# Altium schematic symbol library tms320vc5402.SchLib: 5 symbols
Pins are listed as number, name and electrical type; pins without a type are passive.

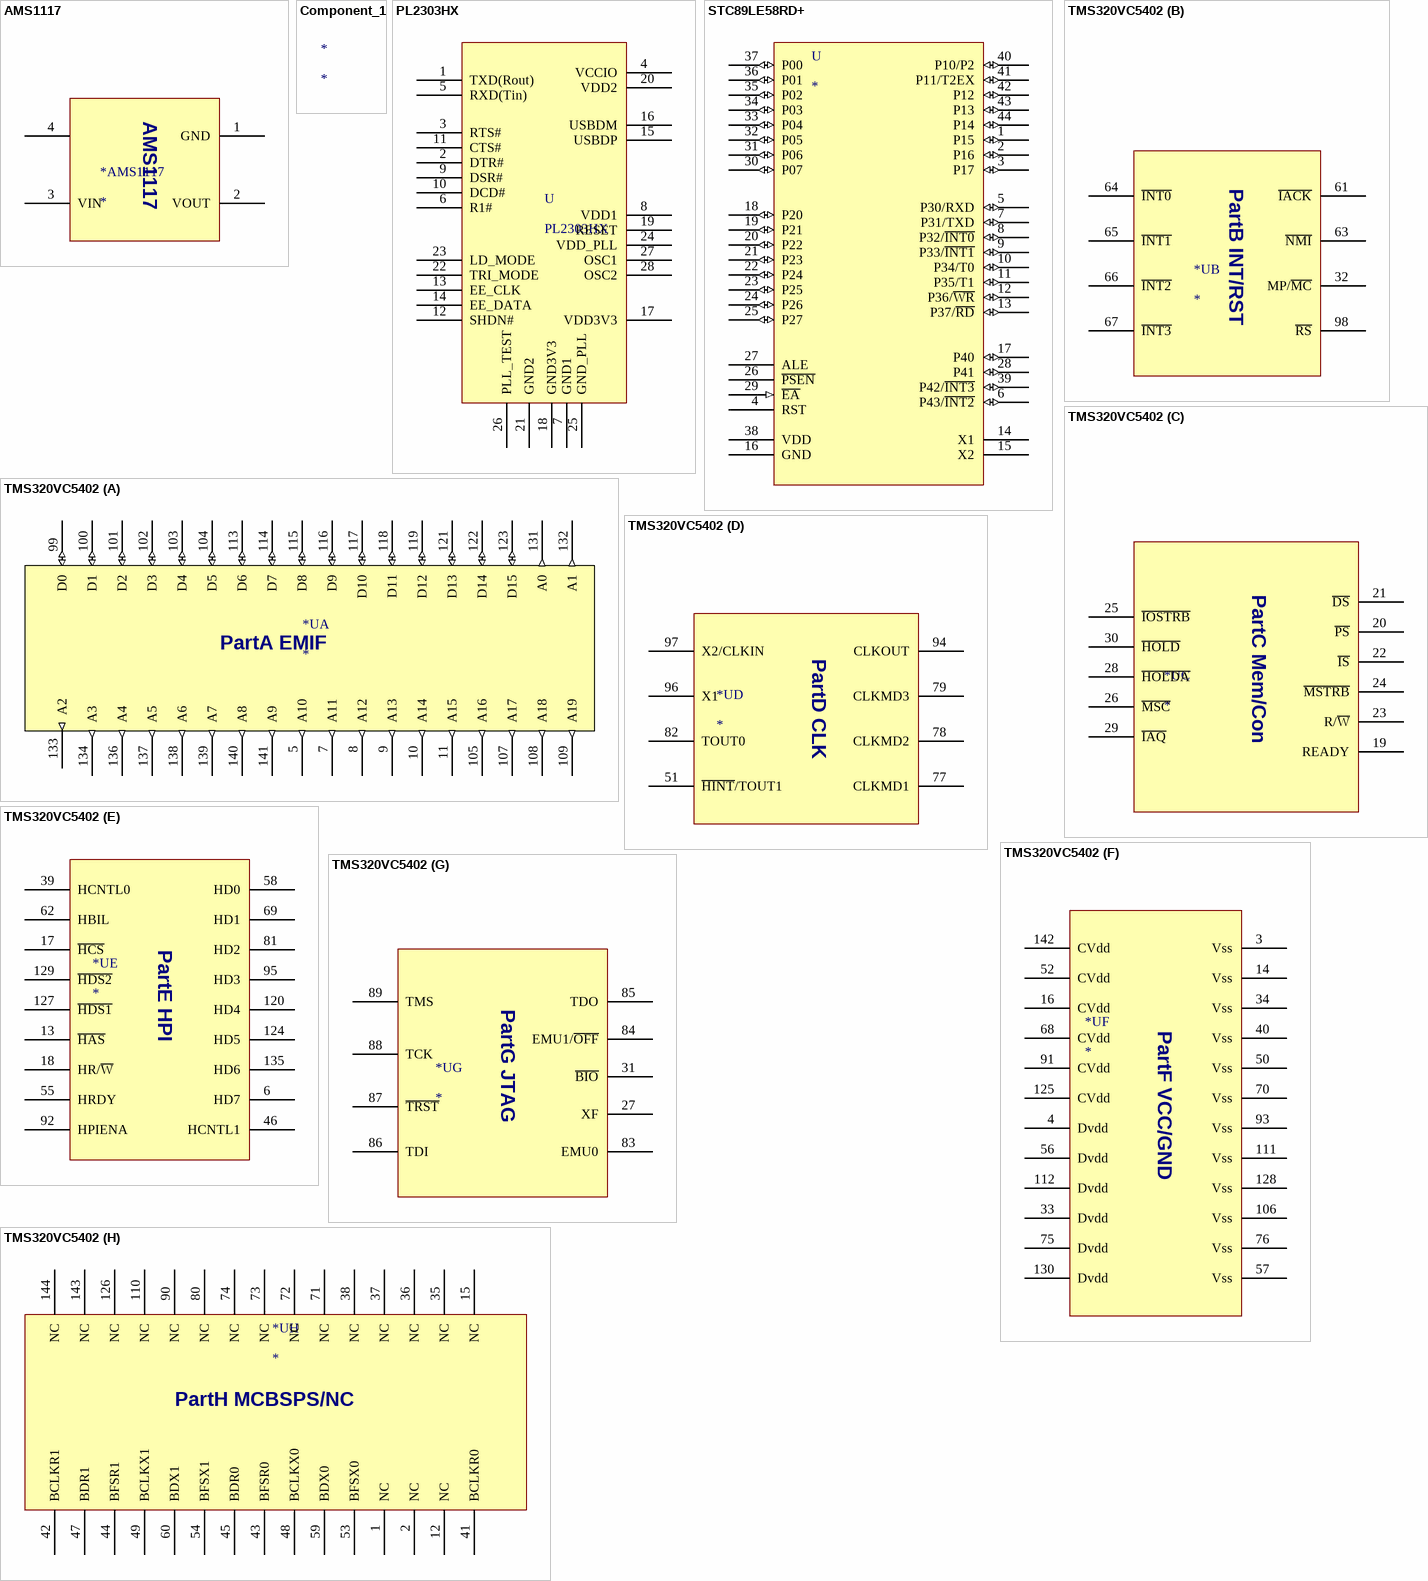
[diagram p0: symbols AMS1117 to TMS320VC5402]

## AMS1117
designator *AMS1117
pins: 1 GND, 2 VOUT, 3 VIN, 4 3

## Component_1
designator *

## PL2303HX
designator U
pins: 1 TXD(Rout), 2 DTR#, 3 RTS#, 4 VCCIO, 5 RXD(Tin), 6 R1#, 7 GND1, 8 VDD1, 9 DSR#, 10 DCD#, 11 CTS#, 12 SHDN#, 13 EE_CLK, 14 EE_DATA, 15 USBDP, 16 USBDM, 17 VDD3V3, 18 GND3V3, 19 RESET, 20 VDD2, 21 GND2, 22 TRI_MODE, 23 LD_MODE, 24 VDD_PLL, 25 GND_PLL, 26 PLL_TEST, 27 OSC1, 28 OSC2

## STC89LE58RD+
designator U
pins: 1 P15 (io), 2 P16 (io), 3 P17 (io), 4 RST, 5 P30/RXD (io), 6 P43/~{INT2} (io), 7 P31/TXD (io), 8 P32/~{INT0} (io), 9 P33/~{INT1} (io), 10 P34/T0 (io), 11 P35/T1 (io), 12 P36/~{WR} (io), 13 P37/~{RD} (io), 14 X1, 15 X2, 16 GND, 17 P40 (io), 18 P20 (io), 19 P21 (io), 20 P22 (io), 21 P23 (io), 22 P24 (io), 23 P25 (io), 24 P26 (io), 25 P27 (io), 26 ~{PSEN}, 27 ALE, 28 P41 (io), 29 ~{EA} (in), 30 P07 (io), 31 P06 (io), 32 P05 (io), 33 P04 (io), 34 P03 (io), 35 P02 (io), 36 P01 (io), 37 P00 (io), 38 VDD, 39 P42/~{INT3} (io), 40 P10/P2 (io), 41 P11/T2EX (io), 42 P12 (io), 43 P13 (io), 44 P14 (io)

## TMS320VC5402
designator *U
part A pins: 5 A10 (out), 7 A11 (out), 8 A12 (out), 9 A13 (out), 10 A14 (out), 11 A15 (out), 99 D0 (io), 100 D1 (io), 101 D2 (io), 102 D3 (io), 103 D4 (io), 104 D5 (io), 105 A16 (out), 107 A17 (out), 108 A18 (out), 109 A19 (out), 113 D6 (io), 114 D7 (io), 115 D8 (io), 116 D9 (io), 117 D10 (io), 118 D11 (io), 119 D12 (io), 121 D13 (io), 122 D14 (io), 123 D15 (io), 131 A0 (out), 132 A1 (out), 133 A2 (out), 134 A3 (out), 136 A4 (out), 137 A5 (out), 138 A6 (out), 139 A7 (out), 140 A8 (out), 141 A9 (out)
part B pins: 32 MP/~{MC}, 61 ~{IACK}, 63 ~{NMI}, 64 ~{INT0}, 65 ~{INT1}, 66 ~{INT2}, 67 ~{INT3}, 98 ~{RS}
part C pins: 19 READY, 20 ~{PS}, 21 ~{DS}, 22 ~{IS}, 23 R/~{W}, 24 ~{MSTRB}, 25 ~{IOSTRB}, 26 ~{MSC}, 28 ~{HOLDA}, 29 ~{IAQ}, 30 ~{HOLD}
part D pins: 51 ~{HINT}/TOUT1, 77 CLKMD1, 78 CLKMD2, 79 CLKMD3, 82 TOUT0, 94 CLKOUT, 96 X1, 97 X2/CLKIN
part E pins: 6 HD7, 13 ~{HAS}, 17 ~{HCS}, 18 HR/~{W}, 39 HCNTL0, 46 HCNTL1, 55 HRDY, 58 HD0, 62 HBIL, 69 HD1, 81 HD2, 92 HPIENA, 95 HD3, 120 HD4, 124 HD5, 127 ~{HDS1}, 129 ~{HDS2}, 135 HD6
part F pins: 3 Vss, 4 Dvdd, 14 Vss, 16 CVdd, 33 Dvdd, 34 Vss, 40 Vss, 50 Vss, 52 CVdd, 56 Dvdd, 57 Vss, 68 CVdd, 70 Vss, 75 Dvdd, 76 Vss, 91 CVdd, 93 Vss, 106 Vss, 111 Vss, 112 Dvdd, 125 CVdd, 128 Vss, 130 Dvdd, 142 CVdd
part G pins: 27 XF, 31 ~{BIO}, 83 EMU0, 84 EMU1/~{OFF}, 85 TDO, 86 TDI, 87 ~{TRST}, 88 TCK, 89 TMS
part H pins: 1 NC, 2 NC, 12 NC, 15 NC, 35 NC, 36 NC, 37 NC, 38 NC, 41 BCLKR0, 42 BCLKR1, 43 BFSR0, 44 BFSR1, 45 BDR0, 47 BDR1, 48 BCLKX0, 49 BCLKX1, 53 BFSX0, 54 BFSX1, 59 BDX0, 60 BDX1, 71 NC, 72 NC, 73 NC, 74 NC, 80 NC, 90 NC, 110 NC, 126 NC, 143 NC, 144 NC
part A text: PartA EMIF
part B text: PartB INT/RST
part C text: PartC Mem/Con
part D text: PartD CLK
part E text: PartE HPI
part F text: PartF VCC/GND
part G text: PartG JTAG
part H text: PartH MCBSPS/NC